# EAGLE library part 691311500107 (library Terminal Blocks)
WR-TBL Series 311 - 5.08 mm Manufacturer's datasheet <https://katalog.we-online.com/em/datasheet/691311500107.pdf>
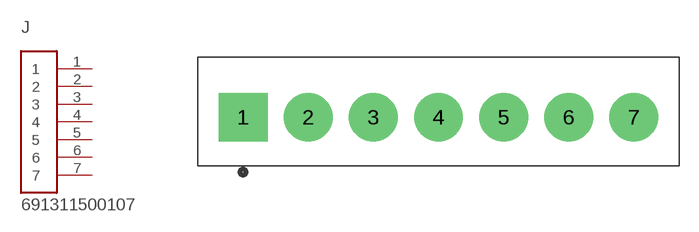
[diagram p2: symbol with the pads of TERMINALBLOCK_PLUGGABLE-7-5.08MM; footprint TERMINALBLOCK_PLUGGABLE-7-5.08MM]

Designator prefix J

## 691311500107 (CREATED_BY: PCBLayout.com; MANUFACTURER: WURTH ELEKTRONIK; MPN: 691311500107)  [TERMINALBLOCK_PLUGGABLE-7-5.08MM]
1  1  pas
2  2  pas
3  3  pas
4  4  pas
5  5  pas
6  6  pas
7  7  pas

## Footprint TERMINALBLOCK_PLUGGABLE-7-5.08MM (pad centres in mm)
drill 1.6 pad 3.81 square: 1 -15.24,0
drill 1.6 pad 3.81: 2 -10.16,0; 3 -5.08,0; 4 0,0; 5 5.08,0; 6 10.16,0; 7 15.24,0